# Altium schematic symbol library PMEG6045ETPX.SchLib: 2 symbols
Pins are listed as number, name and electrical type; pins without a type are passive.

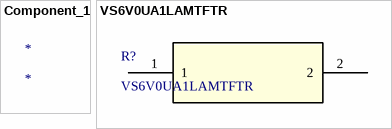
[diagram p0: symbols Component_1 to VS6V0UA1LAMTFTR]

## Component_1
designator *

## VS6V0UA1LAMTFTR
designator R?
No Description Available; Vendor: ROHM Semiconductor; Built_By: EMA_Matt; SourceLibrary: Rohm_2019-09-23; Manufacturer_Part_Number: VS6V0UA1LAMTFTR; Copyright: Copyright (C) 2018 Accelerated Designs. All rights reserved; RefDes: RefDes; Type: DEV
footprint DIO_RB050LAM_ROM
pins: 1, 2